# Altium footprint library PPTC021LFBN-RC.PcbLib: 1 footprints
Each footprint in its own frame and in the unit in brackets; x right, y up, seen from the top. Pads: shape width x height; smd on the part's side, far side on the other; paste and mask are expansions set on the pad; w line width, h text height; cw(c..) or ccw(c..) is an arc to the next point about the centre after c.
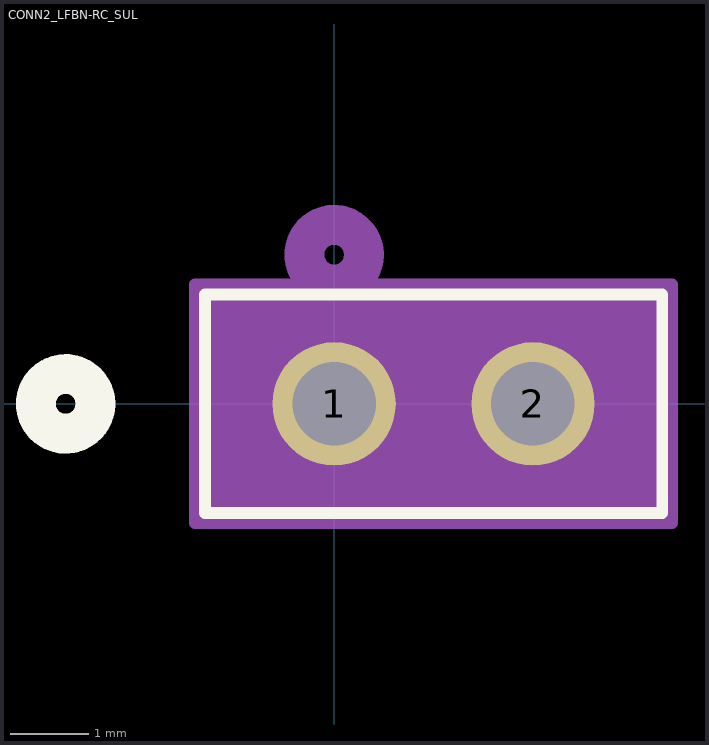
[diagram p0: the footprint, top view; thin cyan lines are the x and y axes]

## CONN2_LFBN-RC_SUL [mil]
pads (2):
  round 62 / inner round 60 / far side round 62 hole 42 paste-31 mask+0: 1(0,0) 2(100,0)
Top Overlay:
  circle w20: c-135,0 r15
  lines w6: -65,-55 165,-55 165,55 -65,55 -65,-55
Bottom Overlay:
  circle w20: c-135,0 r15
Mechanical 13:
  circle w20: c0,75 r15
  lines w1: -60,-50 160,-50 160,50 -60,50 -60,-50
Mechanical 15:
  region: 170,60 -70,60 -70,-60 170,-60
  lines w6: -70,-60 -70,60 170,60 170,-60 -70,-60